# Altium footprint library PcbLib1.PcbLib: 2 footprints
Each footprint in its own frame and in the unit in brackets; x right, y up, seen from the top. Pads: shape width x height; smd on the part's side, far side on the other; paste and mask are expansions set on the pad; w line width, h text height; cw(c..) or ccw(c..) is an arc to the next point about the centre after c.
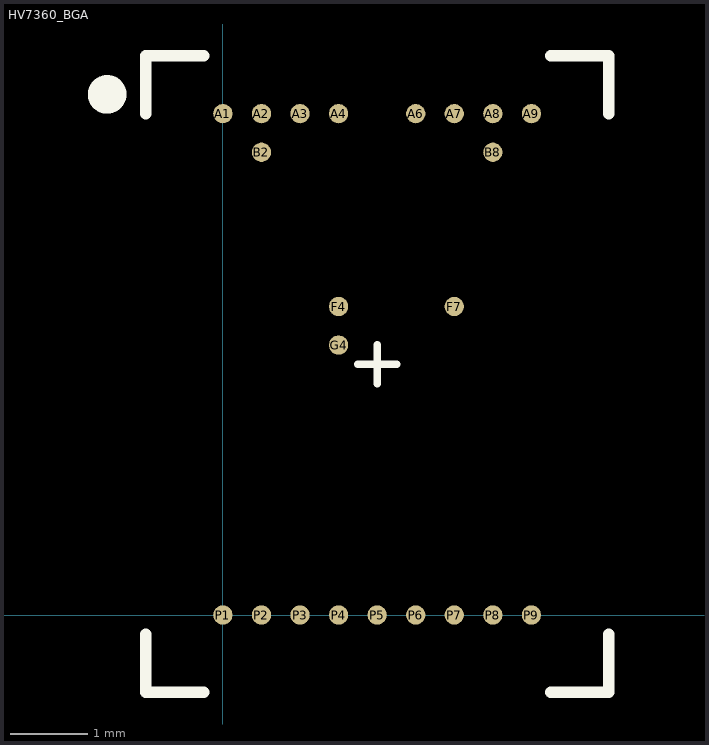
[diagram p0: the footprints below, top view; thin cyan lines are the x and y axes]

## HV7360_BGA [mm]
pads (22):
  round 0.25 smd: A1(0,6.5) A2(0.5,6.5) A3(1,6.5) A4(1.5,6.5) A6(2.5,6.5) A7(3,6.5) A8(3.5,6.5) A9(4,6.5) B2(0.5,6) B8(3.5,6) F4(1.5,4) F7(3,4) G4(1.5,3.5) P1(0,0) P2(0.5,0) P3(1,0) P4(1.5,0) P5(2,0) P6(2.5,0) P7(3,0) P8(3.5,0) P9(4,0)
Top Overlay:
  circle w0.3: c-1.5,6.75 r0.1
  lines w0.1: 1.75,3.25 2.25,3.25 ; 2,3 2,3.5
  lines w0.15: -1,-0.25 -1,-1 -0.25,-1 ; -1,6.5 -1,7.25 -0.25,7.25 ; 4.25,-1 5,-1 5,-0.25 ; 4.25,7.25 5,7.25 5,6.5

## PCBComponent_1 [mm]